# Altium schematic symbol library LMV331M7.SchLib: 1 symbol
Pins are listed as number, name and electrical type; pins without a type are passive.

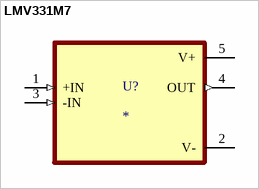
[diagram p0: symbol LMV331M7]

## LMV331M7
designator U?
MP: LMV331M7/NOPB; MF: {'manufacturer': u'Texas Instruments'}; Price: None; Package: None; Availability: Unavailable; Value: *
footprint SOT65P210X110-5N
pins: 1 +IN (in), 2 V- (power), 3 -IN (in), 4 OUT (out), 5 V+ (power)